# Altium footprint library 455-2271-ND.PcbLib: 1 footprints
Each footprint in its own frame and in the unit in brackets; x right, y up, seen from the top. Pads: shape width x height; smd on the part's side, far side on the other; paste and mask are expansions set on the pad; w line width, h text height; cw(c..) or ccw(c..) is an arc to the next point about the centre after c.
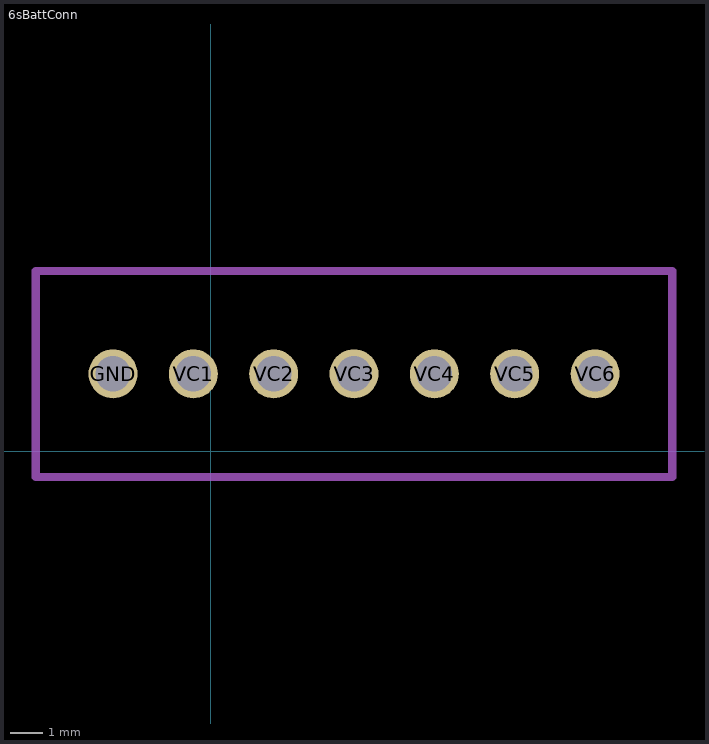
[diagram p0: the footprint, top view; thin cyan lines are the x and y axes]

## 6sBattConn [mil] "6s Molex Battery Connector"
pads (7):
  round 60 hole 43.31: GND(-120,95) VC1(-21.65,95) VC2(76.85,95) VC3(175.2,95) VC4(273.62,95) VC5(371.97,95) VC6(470.47,95)
Mechanical 1:
  lines w10: 564.96,220.47 564.96,-31.5 -214.57,-31.5 -214.57,220.98 175.2,220.98 564.96,220.98
3D body: height 255.91, standoff 0, extent -214.57,-31.5 564.96,220.98